# Altium schematic symbol library LTC1050CS8#TRPBF.SchLib: 1 symbol
Pins are listed as number, name and electrical type; pins without a type are passive.

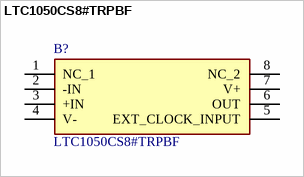
[diagram p0: symbol LTC1050CS8#TRPBF]

## LTC1050CS8#TRPBF
designator B?
Zero-Drift Amplifier Circuit 8-SO; Manufacturer_Name: Analog Devices; Geometry.Height: 1.752mm; Manufacturer_Part_Number: LTC1050CS8#TRPBF; Mouser Part Number: 584-LTC1050CS8#TRPBF; Mouser Price/Stock: https://www.mouser.co.uk/ProductDetail/Analog-Devices/LTC1050CS8TRPBF?qs=hVkxg5c3xu%252BAz6PQseXWvA%3D%3D; Arrow Part Number: LTC1050CS8#TRPBF; Arrow Price/Stock: https://www.arrow.com/en/products/ltc1050cs8trpbf/analog-devices?region=nac; Datasheet Link: http://www.linear.com/docs/1770
footprint SOIC127P599X175-8N
pins: 1 NC_1, 2 -IN, 3 +IN, 4 V-, 5 EXT_CLOCK_INPUT, 6 OUT, 7 V+, 8 NC_2